# EAGLE library part FPC12 (library SW_Connectors)
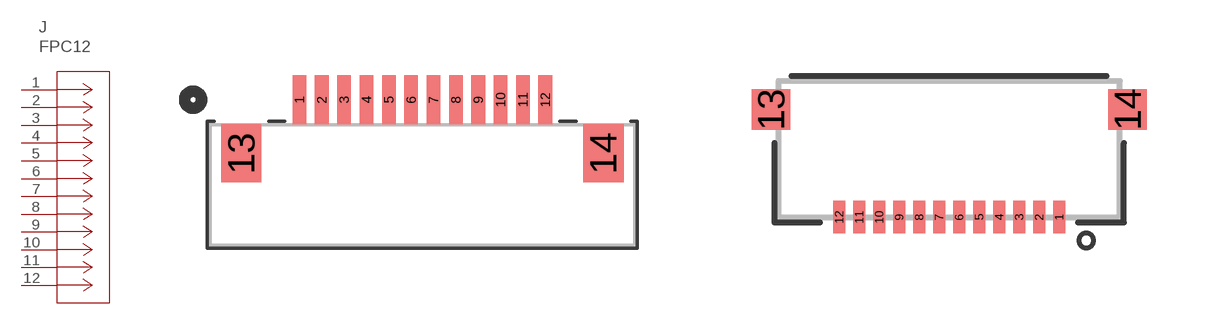
[diagram p15: symbol with the pads of CONN_68611214422_WRE; footprints CONN_68611214422_WRE, CON12_1X12_DRB_58GF_JAE]

Designator prefix J

## FPC121.0PITCH (CATEGORY: Connector; DESCRIPTION: CONN FPC BOTTOM 12POS 1.00MM R/A; MFGS: Wurth Electronics; MPNS: 68611214422; PACKAGE: FPC12)  [CONN_68611214422_WRE]
1  1  pas
2  2  pas
3  3  pas
4  4  pas
5  5  pas
6  6  pas
7  7  pas
8  8  pas
9  9  pas
10  10  pas
11  11  pas
12  12  pas

## FPC120.5PITCH (CATEGORY: Connector; PACKAGE: FPC12)  [CON12_1X12_DRB_58GF_JAE]
Pads as for CONN_68611214422_WRE

## Footprint CONN_68611214422_WRE (pad centres in mm)
smd 0.61 x 2.21: 1 -5.5,3.81; 2 -4.5,3.81; 3 -3.5,3.81; 4 -2.5,3.81; 5 -1.5,3.81; 6 -0.5,3.81; 7 0.5,3.81; 8 1.5,3.81; 9 2.5,3.81; 10 3.5,3.81; 11 4.5,3.81; 12 5.5,3.81
smd 1.803 x 2.591: 13 -8.1,1.41; 14 8.1,1.41

## Footprint CON12_1X12_DRB_58GF_JAE (pad centres in mm)
smd 0.305 x 0.813: 1 2.75,-1.702; 2 2.25,-1.702; 3 1.75,-1.702; 4 1.25,-1.702; 5 0.75,-1.702; 6 0.25,-1.702; 7 -0.25,-1.702; 8 -0.75,-1.702; 9 -1.25,-1.702; 10 -1.75,-1.702; 11 -2.25,-1.702; 12 -2.75,-1.702
smd 0.965 x 1.016: 13 -4.458,0.991; 14 4.458,0.991